# EAGLE library part 2636-3106/0020-0000 (library con-wago_2636)
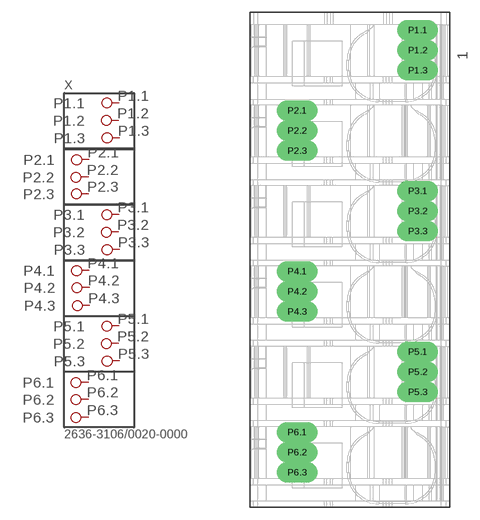
[diagram p17: symbol with the pads of P-2636-3106/0020-0000; footprint P-2636-3106/0020-0000]

Designator prefix X

## 2636-3106/0020-0000  [P-2636-3106/0020-0000]
P1.1  P1.1
P1.2  P1.2
P1.3  P1.3
P2.1  P2.1
P2.2  P2.2
P2.3  P2.3
P3.1  P3.1
P3.2  P3.2
P3.3  P3.3
P4.1  P4.1
P4.2  P4.2
P4.3  P4.3
P5.1  P5.1
P5.2  P5.2
P5.3  P5.3
P6.1  P6.1
P6.2  P6.2
P6.3  P6.3

## Footprint P-2636-3106/0020-0000 (pad centres in mm)
drill 1.7 pad 1.778 long: P1.1 0,-0.65; P1.2 0,-3.15; P1.3 0,-5.65; P2.1 -15,-10.65; P2.2 -15,-13.15; P2.3 -15,-15.65; P3.1 0,-20.65; P3.2 0,-23.15; P3.3 0,-25.65; P4.1 -15,-30.65; P4.2 -15,-33.15; P4.3 -15,-35.65; P5.1 0,-40.65; P5.2 0,-43.15; P5.3 0,-45.65; P6.1 -15,-50.65; P6.2 -15,-53.15; P6.3 -15,-55.65